# Altium schematic symbol library ImegurasLib.SchLib: 26 symbols
Pins are listed as number, name and electrical type; pins without a type are passive.

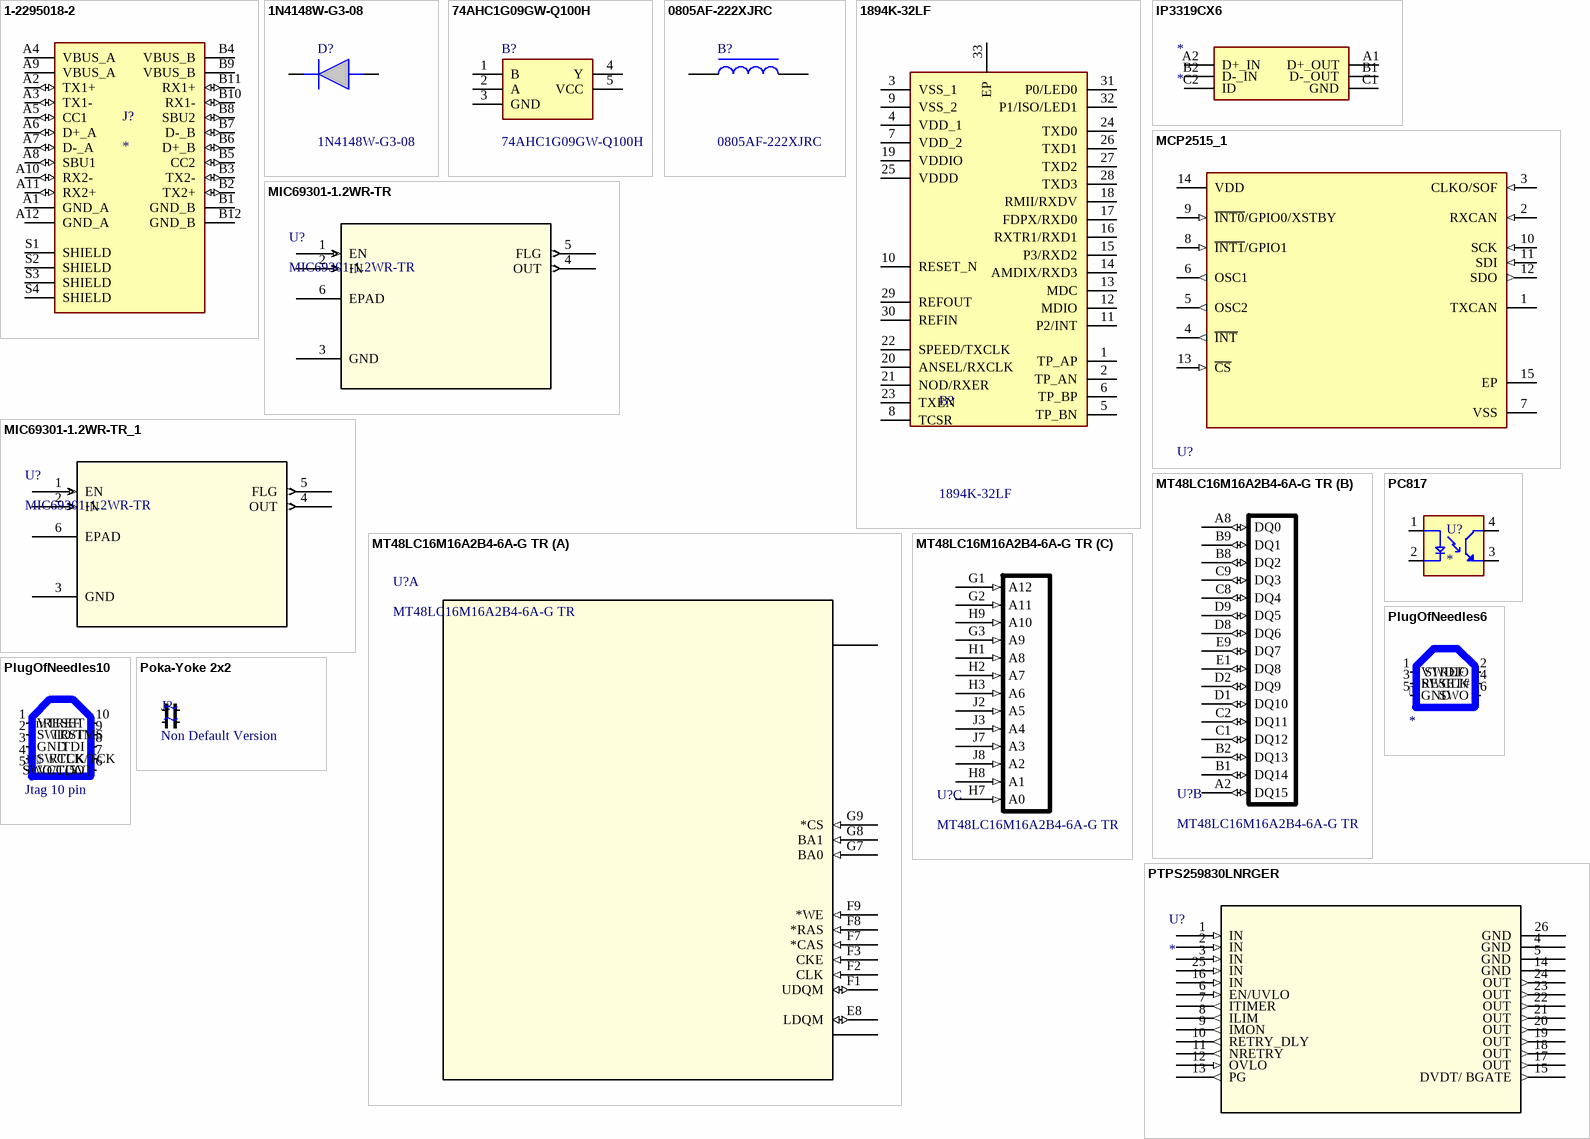
[diagram p0: symbols 1-2295018-2 to PTPS259830LNRGER]

## 1-2295018-2
designator J?
USB-C (USB TYPE-C) USB 3.2 Gen 2 (USB 3.1 Gen 2, Superspeed + (USB 3.1)) Receptacle Connector 24 Position Board Cutout, Surface Mount, Right Angle; Through Hole; MP: 1-2295018-2; MF: TE Connectivity AMP Connectors; Price: None; Package: None; Value: *; Purchase-URL: https://pricing.snapeda.com/search/part/1-2295018-2/?ref=eda; Availability: In Stock; SnapEDA_Link: https://www.snapeda.com/parts/1-2295018-2/TE+Connectivity/view-part/?ref=snap; Check_prices: https://www.snapeda.com/parts/1-2295018-2/TE+Connectivity/view-part/?ref=eda
footprint TE_1-2295018-2
pins: A1 GND_A (power), A2 TX1+ (io), A3 TX1- (io), A4 VBUS_A (power), A5 CC1 (io), A6 D+_A (io), A7 D-_A (io), A8 SBU1 (io), A9 VBUS_A (power), A10 RX2- (io), A11 RX2+ (io), A12 GND_A (power), B1 GND_B (power), B2 TX2+ (io), B3 TX2- (io), B4 VBUS_B (power), B5 CC2 (io), B6 D+_B (io), B7 D-_B (io), B8 SBU2 (io), B9 VBUS_B (power), B10 RX1- (io), B11 RX1+ (io), B12 GND_B (power), S1 SHIELD, S2 SHIELD, S3 SHIELD, S4 SHIELD

## 1N4148W-G3-08
designator D?
Diodes - General Purpose, Power, Switching 100 Volt 150mA 4ns 500mA IFSM; Manufacturer_Name: Vishay; Geometry.Height: 1.35mm; Manufacturer_Part_Number: 1N4148W-G3-08; Mouser Part Number: 78-1N4148W-G3-08; Mouser Price/Stock: https://www.mouser.co.uk/ProductDetail/Vishay-Semiconductors/1N4148W-G3-08?qs=uS%252BVSIFnvp46StDBB15x4Q%3D%3D; Arrow Part Number: 1N4148W-G3-08; Arrow Price/Stock: https://www.arrow.com/en/products/1n4148w-g3-08/vishay; Datasheet Link: https://componentsearchengine.com/Datasheets/1/1N4148W-G3-08.pdf
footprint SOD3716X135N
pins: 1 K, 2 A

## 74AHC1G09GW-Q100H
designator B?
74AHC1G09-Q100 - 2-input AND gate with open-drain output@en-us; Manufacturer_Name: Nexperia; Geometry.Height: 1.1mm; Mouser Part Number: 771-74AHC1G09GWQ100H; Mouser Price/Stock: https://www.mouser.co.uk/ProductDetail/Nexperia/74AHC1G09GW-Q100H?qs=cbprxTG2Yq9u19Xp%252BGmxKg%3D%3D; Manufacturer_Part_Number: 74AHC1G09GW-Q100H; Datasheet Link: https://assets.nexperia.com/documents/data-sheet/74AHC1G09_Q100.pdf
footprint SOT65P212X110-5N
pins: 1 B, 2 A, 3 GND, 4 Y, 5 VCC

## 0805AF-222XJRC
designator B?
COILCRAFT - 0805AF-222XJRC - Wirewound Inductor, 2.2 H, 0.98 ohm, 105 MHz, 350 mA, 0805 [2012 Metric], 0805AF Series; Geometry.Height: 1.52mm; Manufacturer_Name: COILCRAFT; Manufacturer_Part_Number: 0805AF-222XJRC; Mouser Part Number: *; Mouser Price/Stock: *; Arrow Part Number: *; Arrow Price/Stock: *; Datasheet Link: https://4donline.ihs.com/images/VipMasterIC/IC/COLC/COLC-S-A0013795668/COLC-S-A0013956448-1.pdf?hkey=6D3A4C79FDBF58556ACFDE234799DDF0
footprint INDC2317X152N
pins: 1, 2

## 1894K-32LF
designator B?
The IDT1894-32 is a low-power, physical-layer device (PHY) that supports the ISO/IEC 10Base-T and 100Base-TX Carrier-Sense Multiple Access/Collision Detection (CSMA/CD) Ethernet standards, ISO/IEC 8802-3. The IDT1894-32 is intended for MII, Node applications that require the Auto-MDIX feature that automatically corrects crossover errors in plant wiring. The IDT1894-32 incorporates Digital-Signal Processing (DSP) control in its Physical-Medium Dependent (PMD) sub layer. As a result, it can transmit and recei; Manufacturer_Name: Renesas Electronics; Geometry.Height: 1mm; Manufacturer_Part_Number: 1894K-32LF; Mouser Part Number: 972-1894K-32LF; Mouser Price/Stock: https://www.mouser.co.uk/ProductDetail/Renesas-IDT/1894K-32LF?qs=JcGQCygHkIbsoRijcJxryA%3D%3D; Arrow Part Number: *; Arrow Price/Stock: *; Datasheet Link: https://www.idt.com/document/dst/1894-32-datasheet
footprint 1894K-32LF
pins: 1 TP_AP, 2 TP_AN, 3 VSS_1, 4 VDD_1, 5 TP_BN, 6 TP_BP, 7 VDD_2, 8 TCSR, 9 VSS_2, 10 RESET_N, 11 P2/INT, 12 MDIO, 13 MDC, 14 AMDIX/RXD3, 15 P3/RXD2, 16 RXTR1/RXD1, 17 FDPX/RXD0, 18 RMII/RXDV, 19 VDDIO, 20 ANSEL/RXCLK, 21 NOD/RXER, 22 SPEED/TXCLK, 23 TXEN, 24 TXD0, 25 VDDD, 26 TXD1, 27 TXD2, 28 TXD3, 29 REFOUT, 30 REFIN, 31 P0/LED0, 32 P1/ISO/LED1, 33 EP

## IP3319CX6
designator *
footprint BGA6C40P2X3_95X134X60
pins: A1 D+_OUT, A2 D+_IN, B1 D-_OUT, B2 D-_IN, C1 GND, C2 ID

## MCP2515_1
designator U?  (value not drawn)
footprint MCP2515
pins: 1 TXCAN, 2 RXCAN (in), 3 CLKO/SOF (in), 4 ~{INT} (out), 5 OSC2 (out), 6 OSC1 (out), 7 VSS (power), 8 ~{INT1}/GPIO1 (in), 9 ~{INT0}/GPIO0/XSTBY (in), 10 SCK (in), 11 SDI (in), 12 SDO (out), 13 ~{CS} (in), 14 VDD (power), 15 EP (power)

## MIC69301-1.2WR-TR
designator U?
No Description Available; Mfr_Name: Microchip; Copyright: Copyright (C) 2024 Ultra Librarian. All rights reserved.; Manufacturer_Part_Number: MIC69301-1.2WR-TR; RefDes: RefDes; Type: DEV
footprint S-PAK-5_R_MCH
pins: 1 EN (in), 2 IN (in), 3 GND (power), 4 OUT (out), 5 FLG (out), 6 EPAD

## MIC69301-1.2WR-TR_1
designator U?, comment MIC69301-1.2WR-TR
No Description Available; Mfr_Name: Microchip; Copyright: Copyright (C) 2024 Ultra Librarian. All rights reserved.; Manufacturer_Part_Number: MIC69301-1.2WR-TR; RefDes: RefDes; Type: DEV
footprint S-PAK-5_R_MCH
pins: 1 EN (in), 2 IN (in), 3 GND (power), 4 OUT (out), 5 FLG (out), 6 EPAD

## MT48LC16M16A2B4-6A-G TR
designator U?
16 bit memory sdram, 16M 16 banks, 256 Megs Total, 167 MHz max
footprint VFBGA54_8X8_MRN
part A pins: ?1, ?2, E8 LDQM (io), F1 UDQM (io), F2 CLK (in), F3 CKE (in), F7 *CAS (in), F8 *RAS (in), F9 *WE (in), G7 BA0 (in), G8 BA1 (in), G9 *CS (in)
part B pins: A2 DQ15 (io), A8 DQ0 (io), B1 DQ14 (io), B2 DQ13 (io), B8 DQ2 (io), B9 DQ1 (io), C1 DQ12 (io), C2 DQ11 (io), C8 DQ4 (io), C9 DQ3 (io), D1 DQ10 (io), D2 DQ9 (io), D8 DQ6 (io), D9 DQ5 (io), E1 DQ8 (io), E9 DQ7 (io)
part C pins: G1 A12 (in), G2 A11 (in), G3 A9 (in), H1 A8 (in), H2 A7 (in), H3 A6 (in), H7 A0 (in), H8 A1 (in), H9 A10 (in), J2 A5 (in), J3 A4 (in), J7 A3 (in), J8 A2 (in)

## PC817
designator U?
Optoisolator Transistor Output 5000Vrms 1 Channel 4-SMD; MP: PC817XI; MF: Sharp Microelectronics; Price: None; Availability: In Stock; Package: SMD-4 Sharp Microelectronics; Value: *; SnapEDA_Link: https://www.snapeda.com/parts/PC817XI/Sharp+Microelectronics/view-part/?ref=snap; Purchase-URL: https://pricing.snapeda.com/search/part/PC817XI/?ref=eda; Check_prices: https://www.snapeda.com/parts/PC817XI/Sharp+Microelectronics/view-part/?ref=eda
footprint PC817
pins: 1 A, 2 C, 3 ET, 4 CT

## PlugOfNeedles6
designator 
footprint Pluck-Of-Needles 6 POS (A proprietary solderless JTAG disposition)
footprint Pluck-Of-Needles 6 POS naked (A proprietary solderless JTAG disposition)
pins: 1 VTREF, 2 SWDIO, 3 RESET#, 4 SWCLK, 5 GND, 6 SWO

## PlugOfNeedles10
designator J?, comment Jtag 10 pin
A short footprint for jtag
footprint Pluck-Of-Needles 10 POS (A proprietary solderless JTAG disposition)
footprint Pluck-Of-Needles 10 POS naked (A proprietary solderless JTAG disposition)
pins: 1 VTREF, 2 SWIO/TMS, 3 GND, 4 SWCLK/TCK, 5 VCC(5V), 6 SWO/TDO, 7 RTCK, 8 TDI, 9 TRST, 10 nRESET

## Poka-Yoke 2x2
designator J?, comment Non Default Version  (no BOM)
An solderbridge variation meant to permit crossover to straightrough variations easily
footprint PokaYoke Blank (An solderbridge variation meant to permit crossover to straightrough variations easily)
pins: RX_0, RX_1, TX_0, TX_1

## PTPS259830LNRGER
designator U?
No Description Available; Mfr_Name: Texas Instruments; Type: Power Management; RefDes: RefDes
footprint VQFN24_RGE_TEX
pins: 1 IN (in), 2 IN (in), 3 IN (in), 4 GND (power), 5 GND (power), 6 EN/UVLO (in), 7 ITIMER (out), 8 ILIM (out), 9 IMON (out), 10 RETRY_DLY (out), 11 NRETRY (out), 12 OVLO (in), 13 PG (out), 14 GND (power), 15 DVDT/ BGATE (out), 16 IN (in), 17 OUT (out), 18 OUT (out), 19 OUT (out), 20 OUT (out), 21 OUT (out), 22 OUT (out), 23 OUT (out), 24 OUT (out), 25 IN (in), 26 GND (power)

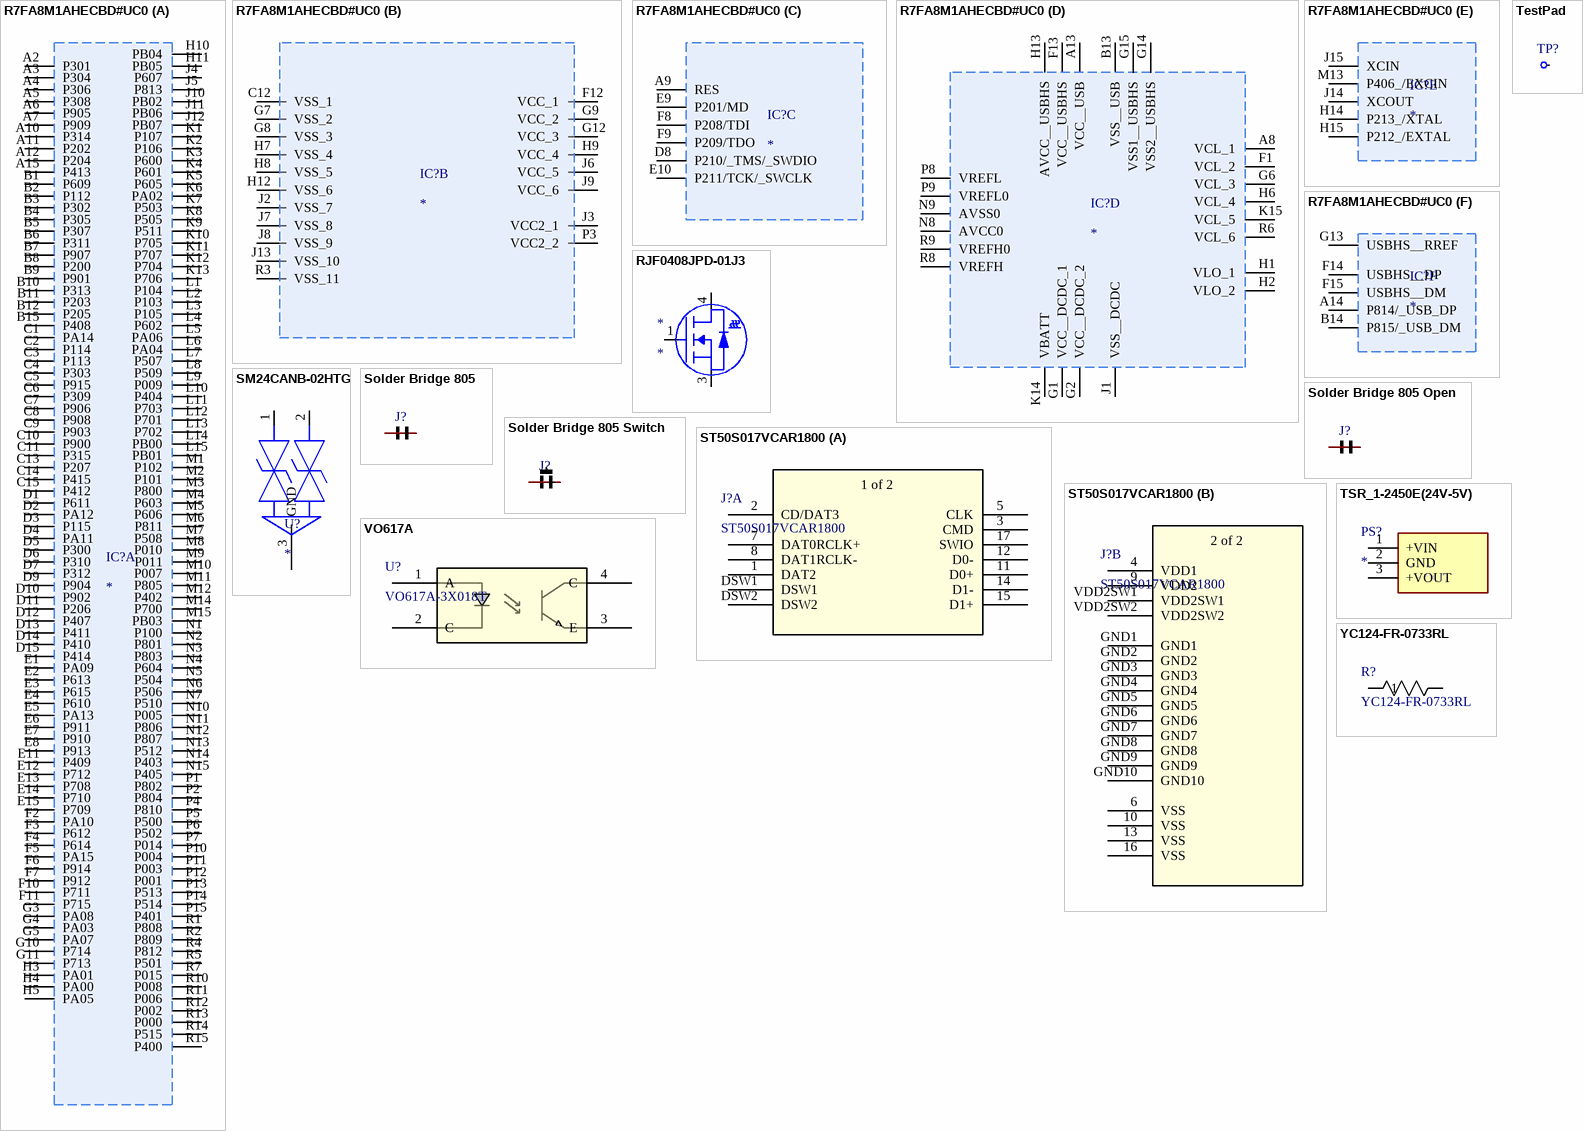
[diagram p1: symbols R7FA8M1AHECBD#UC0 to YC124-FR-0733RL]

## R7FA8M1AHECBD#UC0
designator IC?
Integrated Circuit; Manufacturer_Name: Renesas Electronics; Manufacturer_Part_Number: R7FA8M1AHECBD#UC0; Datasheet Link: https://www.renesas.com/us/en/document/dst/ra8m1-group-datasheet?r=25447396; Height: 1.47mm; Mouser Part Number: 968-R7FA8M1AHECBDUC0; Mouser Price/Stock: https://www.mouser.co.uk/ProductDetail/Renesas-Electronics/R7FA8M1AHECBDUC0?qs=HoCaDK9Nz5en4LBg9VyLXw%3D%3D
footprint RA8M1_BGA
part A pins: A2 P301, A3 P304, A4 P306, A5 P308, A6 P905, A7 P909, A10 P314, A11 P202, A12 P204, A15 P413, B1 P609, B2 P112, B3 P302, B4 P305, B5 P307, B6 P311, B7 P907, B8 P200, B9 P901, B10 P313, B11 P203, B12 P205, B15 P408, C1 PA14, C2 P114, C3 P113, C4 P303, C5 P915, C6 P309, C7 P906, C8 P908, C9 P903, C10 P900, C11 P315, C13 P207, C14 P415, C15 P412, D1 P611, D2 PA12, D3 P115, D4 PA11, D5 P300, D6 P310, D7 P312, D9 P904, D10 P902, D11 P206, D12 P407, D13 P411, D14 P410, D15 P414, E1 PA09, E2 P613, E3 P615, E4 P610, E5 PA13, E6 P911, E7 P910, E8 P913, E11 P409, E12 P712, E13 P708, E14 P710, E15 P709, F2 PA10, F3 P612, F4 P614, F5 PA15, F6 P914, F7 P912, F10 P711, F11 P715, G3 PA08, G4 PA03, G5 PA07, G10 P714, G11 P713, H3 PA01, H4 PA00, H5 PA05, H10 PB04, H11 PB05, J4 P607, J5 P813, J10 PB02, J11 PB06, J12 PB07, K1 P107, K2 P106, K3 P600, K4 P601, K5 P605, K6 PA02, K7 P503, K8 P505, K9 P511, K10 P705, K11 P707, K12 P704, K13 P706, L1 P104, L2 P103, L3 P105, L4 P602, L5 PA06, L6 PA04, L7 P507, L8 P509, L9 P009, L10 P404, L11 P703, L12 P701, L13 P702, L14 PB00, L15 PB01, M1 P102, M2 P101, M3 P800, M4 P603, M5 P606, M6 P811, M7 P508, M8 P010, M9 P011, M10 P007, M11 P805, M12 P402, M14 P700, M15 PB03, N1 P100, N2 P801, N3 P803, N4 P604, N5 P504, N6 P506, N7 P510, N10 P005, N11 P806, N12 P807, N13 P512, N14 P403, N15 P405, P1 P802, P2 P804, P4 P810, P5 P500, P6 P502, P7 P014, P10 P004, P11 P003, P12 P001, P13 P513, P14 P514, P15 P401, R1 P808, R2 P809, R4 P812, R5 P501, R7 P015, R10 P008, R11 P006, R12 P002, R13 P000, R14 P515, R15 P400
part B pins: C12 VSS_1, F12 VCC_1, G7 VSS_2, G8 VSS_3, G9 VCC_2, G12 VCC_3, H7 VSS_4, H8 VSS_5, H9 VCC_4, H12 VSS_6, J2 VSS_7, J3 VCC2_1, J6 VCC_5, J7 VSS_8, J8 VSS_9, J9 VCC_6, J13 VSS_10, P3 VCC2_2, R3 VSS_11
part C pins: A9 RES, D8 P210/_TMS/_SWDIO, E9 P201/MD, E10 P211/TCK/_SWCLK, F8 P208/TDI, F9 P209/TDO
part D pins: A8 VCL_1, A13 VCC__USB, B13 VSS__USB, F1 VCL_2, F13 VCC__USBHS, G1 VCC__DCDC_1, G2 VCC__DCDC_2, G6 VCL_3, G14 VSS2__USBHS, G15 VSS1__USBHS, H1 VLO_1, H2 VLO_2, H6 VCL_4, H13 AVCC__USBHS, J1 VSS__DCDC, K14 VBATT, K15 VCL_5, N8 AVCC0, N9 AVSS0, P8 VREFL, P9 VREFL0, R6 VCL_6, R8 VREFH, R9 VREFH0
part E pins: H14 P213_/XTAL, H15 P212_/EXTAL, J14 XCOUT, J15 XCIN, M13 P406_/EXCIN
part F pins: A14 P814/_USB_DP, B14 P815/_USB_DM, F14 USBHS__DP, F15 USBHS__DM, G13 USBHS__RREF

## RJF0408JPD-01J3
designator *
footprint RJF0408JPD-01J3
pins: 1 GATE, 3 SOURCE, 4 DRAIN

## SM24CANB-02HTG
designator U?
No Description Available; Mfr_Name: Littelfuse Inc; RefDes: RefDes; Type: Type
footprint SOT23-3_SM24CANB-02HTG_LTF
footprint SOT23-3_SM24CANB-02HTG_LTF-M
footprint SOT23-3_SM24CANB-02HTG_LTF-L
pins: 1 A, 2 A, 3 GND

## Solder Bridge 805
designator J?, comment A solder Bridge  (value not drawn)
footprint Solder Bridge 805 (Closed Solder Bridge)
footprint Solder Bridge 402 (Closed Solder Bridge)
pins: P0, P1

## Solder Bridge 805 Open
designator J?, comment A solder Bridge  (value not drawn)
footprint Solder Bridge 805 Open (Open Solder Bridge)
footprint Solder Bridge 2512 Open (Open Solder Bridge)
pins: P0, P1

## Solder Bridge 805 Switch
designator J?, comment A solder Bridge  (value not drawn)
footprint Solder Bridge 805 switch (Closed Solder Bridge)
footprint Solder Bridge 402 switch (Closed Solder Bridge)
pins: P0, P1, P2

## ST50S017VCAR1800
designator J?
No Description Available; Mfr_Name: JAE Electronics; Copyright: Copyright (C) 2024 Ultra Librarian. All rights reserved.; Manufacturer_Part_Number: ST50S017VCAR1800; RefDes: RefDes; Type: DEV
footprint ST50S017VCAR1800_JAE
part A pins: 1 DAT2, 2 CD/DAT3, 3 CMD, 5 CLK, 7 DAT0RCLK+, 8 DAT1RCLK-, 11 D0+, 12 D0-, 14 D1-, 15 D1+, 17 SWIO, DSW1, DSW2
part B pins: 4 VDD1, 6 VSS, 9 VDD2, 10 VSS, 13 VSS, 16 VSS, GND1, GND2, GND3, GND4, GND5, GND6, GND7, GND8, GND9, GND10, VDD2SW1, VDD2SW2
part A text: 1 of 2
part B text: 2 of 2

## TestPad
designator TP?
footprint Test Pad Small (A small test pad for HF applications)
footprint Test Pad Miniscule (A small test pad for HF applications)
footprint Test Pad Extra Small (A small test pad for HF applications)
pins: P2

## TSR_1-2450E(24V-5V)
designator PS?
Power Supply; Manufacturer_Name: Traco Power; Manufacturer_Part_Number: TSR 1-2450E; Datasheet Link: https://tracopower.com/tsr1e-datasheet/; Height: 10.6mm; Mouser Part Number: 495-TSR1-2450E; Mouser Price/Stock: https://www.mouser.co.uk/ProductDetail/TRACO-Power/TSR-1-2450E?qs=vmHwEFxEFR%2FlQnbAtEoeVA%3D%3D
footprint TSR12450E
pins: 1 +VIN, 2 GND, 3 +VOUT

## VO617A
designator U?, comment VO617A-3X018T
VO617A-3X018T Optocoupler Dc-in 1-CH Transistor Dc-out 4-PIN PDIP SMD T/r; NexarPartId: 68099910; Number of Channels: 1
footprint VO617A
pins: 1 A, 2 C, 3 E, 4 C

## YC124-FR-0733RL
designator R?
No Description Available; Mfr_Name: Yageo; Copyright: Copyright (C) 2024 Ultra Librarian. All rights reserved.; Manufacturer_Part_Number: YC124-FR-0733RL
pins: 1, 2